# Altium schematic symbol library LED.SchLib: 17 symbols
Pins are listed as number, name and electrical type; pins without a type are passive.

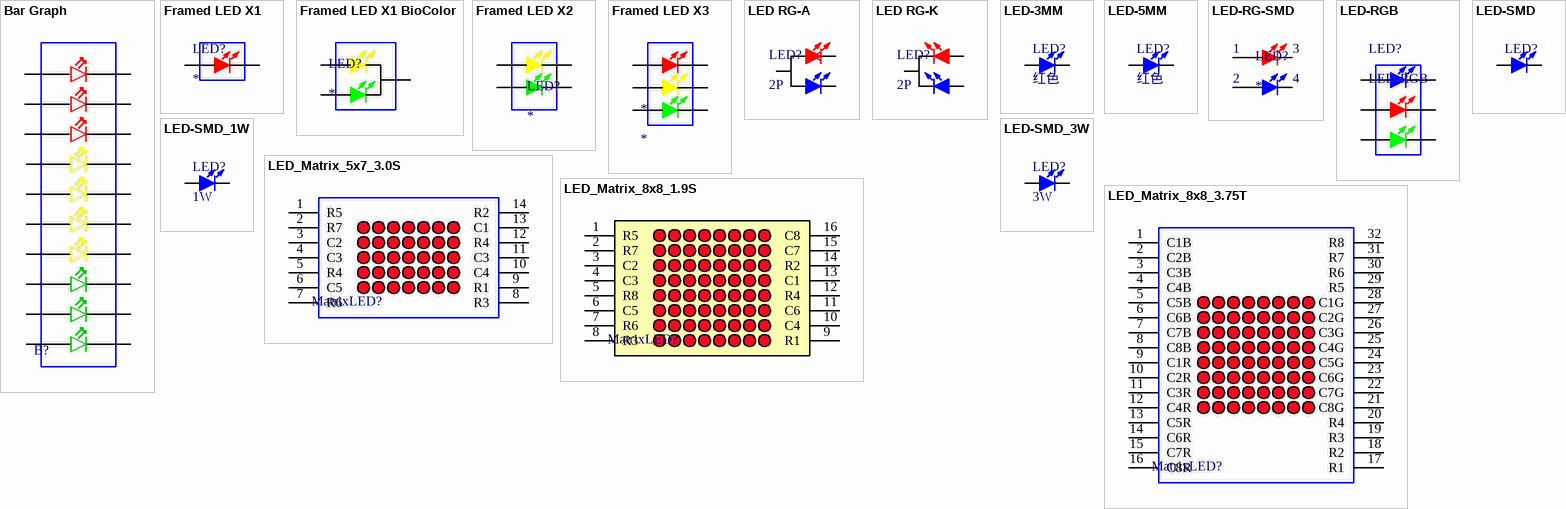
[diagram p0: symbols Bar Graph to LED_Matrix_8x8_3.75T]

## Bar Graph
designator B?  (value not drawn)
Designer: Farhoosh-Co.ir
footprint BarGraph (Bar Grph LED)
pins: 1, 2, 3, 4, 5, 6, 7, 8, 9, 10, 11, 12, 13, 14, 15, 16, 17, 18, 19, 20

## Framed LED X1
designator LED?
Dialight 551-xxxx
footprint 551-1107F
footprint 551-1307F (LED 3mm Right Angle - Color Green)
pins: 1, 2

## Framed LED X1 BioColor
designator LED?
footprint 550 Green-Yellow (LED 3mm Right Angle - Yellow Green)
pins: 1, 2, 3

## Framed LED X2
designator LED?
Dialight 553-xxxx
footprint 553-0221F
footprint 553-0232F
footprint 553-0212F
pins: 1, 2, 3, 4

## Framed LED X3
designator *
Dialight 564-xxxx
footprint 564-0100-132F
pins: 1, 2, 3, 4, 5, 6

## LED RG-A
designator LED?, comment 2P
two-color LED Anode; BOM名称: 共阳双色LED; 版权归属: 源创客; 学习资源: www.ooocke.com
footprint LED 3mm-2P (3mm双色LED)
pins: 1, 2, 3

## LED RG-K
designator LED?, comment 2P
two-color LED Kathode; BOM名称: 共阴双色LED; 版权归属: 源创客; 学习资源: www.ooocke.com
footprint LED 3mm-2P (3mm双色LED)
pins: 1, 2, 3

## LED-3MM
designator LED?, comment 红色
Plug-in LED; BOM名称: 插件LED; 版权归属: 源创客; 学习资源: www.ooocke.com
footprint LED 3MM-B (蓝色3mm直插LED)
footprint LED 3MM-G (绿色3mm直插LED)
footprint LED 3MM-R (红色3mm直插LED)
footprint LED 3MM-Y (黄色3mm直插LED)
footprint LED 3MM-YC (橙色3mm直插LED)
footprint LED 3MM-W (白色3mm直插LED)
pins: 1 A, 2 K

## LED-5MM
designator LED?, comment 红色
5mm plug-in LED; BOM名称: 5mm插件LED; 版权归属: 源创客; 学习资源: www.ooocke.com
footprint LED 5MM-B (蓝色5mm直插LED)
footprint LED 5MM-G (绿色5mm直插LED)
footprint LED 5MM-R (红色5mm直插LED)
footprint LED 5MM-Y (黄色5mm直插LED)
footprint LED 5MM-W (白色5mm直插LED)
footprint LED 5MM-YC (橙色5mm直插LED)
pins: 1 A, 2 K

## LED-RG-SMD
designator LED?
two-color LED SMD
footprint LED RG (Footprint not found)
pins: 1, 2, 3, 4

## LED-RGB
designator LED?
Three primary color LED; BOM名称: 三基色LED; 版权归属: 源创客; 学习资源: www.ooocke.com
footprint LED 5050 (白色5050LED)
pins: 1 BULE_A, 2 RED_A, 3 GREEN_A, 4 GREEN_K, 5 RED_K, 6 BULE_K

## LED-SMD
designator LED?
Patch LED; BOM名称: 贴片LED; 版权归属: 源创客; 学习资源: www.ooocke.com
footprint LED 0603W (白色0603LED)
footprint LED 0603R (红色0603LED)
footprint LED 0603B (蓝色0603LED)
footprint LED 0603G (绿色0603LED)
footprint LED 0603Y (黄色0603LED)
footprint LED 0805G (绿色0805LED)
footprint LED 0805R (红色0805LED)
footprint LED 0805B (蓝色0805LED)
footprint LED 0805Y (黄色0805LED)
footprint LED 3528 (��ɫ3528LED)
footprint LED 1206G (绿色1206LED)
footprint LED 5730-V (��ɫ5730LED)
footprint LED 1206Y (黄色1206LED)
footprint LED 0805W (白色0805LED)
footprint LED 1206B (蓝色1206LED)
footprint LED 1206W (白色1206LED)
footprint LED 1206R (红色1206LED)
footprint LED 5730 (LED; 2 Leads)
footprint LED 5050 (��ɫ5050LED)
pins: 1 A, 2 K

## LED-SMD_1W
designator LED?, comment 1W
High power LED; BOM名称: 大功率LED; 版权归属: 源创客; 学习资源: www.ooocke.com
footprint LED 1W/3W-W (白色，大功率LED)
footprint LED 1W/3W (大功率LED)
pins: 1 A, 2 K

## LED-SMD_3W
designator LED?, comment 3W
High power LED; BOM名称: 大功率LED; 版权归属: 源创客; 学习资源: www.ooocke.com
footprint LED 1W/3W-W (白色，大功率LED)
footprint LED 1W/3W (大功率LED)
pins: 1 A, 2 K

## LED_Matrix_5x7_3.0S
designator MatrixLED?
MatrixLED
footprint LED_Matrix_5x7_3.0S
pins: 1 R5, 2 R7, 3 C2, 4 C3, 5 R4, 6 C5, 7 R6, 8 R3, 9 R1, 10 C4, 11 C3, 12 R4, 13 C1, 14 R2

## LED_Matrix_8x8_1.9S
designator MatrixLED?
MatrixLED
footprint LED_Matrix_8x8_1.9S (Footprint not found)
pins: 1 R5, 2 R7, 3 C2, 4 C3, 5 R8, 6 C5, 7 R6, 8 R3, 9 R1, 10 C4, 11 C6, 12 R4, 13 C1, 14 R2, 15 C7, 16 C8

## LED_Matrix_8x8_3.75T
designator MatrixLED?
MatrixLED
footprint LED_Matrix_8x8_3.75T
pins: 1 C1B, 2 C2B, 3 C3B, 4 C4B, 5 C5B, 6 C6B, 7 C7B, 8 C8B, 9 C1R, 10 C2R, 11 C3R, 12 C4R, 13 C5R, 14 C6R, 15 C7R, 16 C8R, 17 R1, 18 R2, 19 R3, 20 R4, 21 C8G, 22 C7G, 23 C6G, 24 C5G, 25 C4G, 26 C3G, 27 C2G, 28 C1G, 29 R5, 30 R6, 31 R7, 32 R8